# EAGLE library part MSP430G2553IPW20 (library Custom Parts Library)
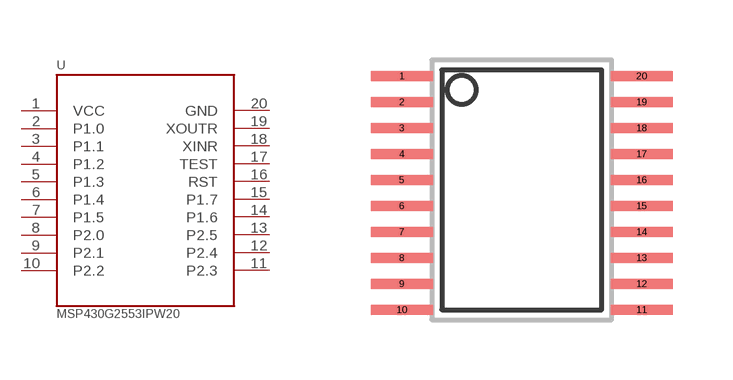
[diagram p0: symbol with the pads of MSP430G2553IPW20; footprint MSP430G2553IPW20]

Designator prefix -

## MSP430G2553IPW20  [MSP430G2553IPW20]
1  VCC  pwr
2  P1.0
3  P1.1
4  P1.2
5  P1.3
6  P1.4
7  P1.5
8  P2.0
9  P2.1
10  P2.2
11  P2.3
12  P2.4
13  P2.5
14  P1.6
15  P1.7
16  RST
17  TEST
18  XINR
19  XOUTR
20  GND  pwr

## Footprint MSP430G2553IPW20 (pad centres in mm)
smd 1.55 x 0.25: 1 -3,2.85; 2 -3,2.2; 3 -3,1.55; 4 -3,0.9; 5 -3,0.25; 6 -3,-0.4; 7 -3,-1.05; 8 -3,-1.7; 9 -3,-2.35; 10 -3,-3; 11 3,-3; 12 3,-2.35; 13 3,-1.7; 14 3,-1.05; 15 3,-0.4; 16 3,0.25; 17 3,0.9; 18 3,1.55; 19 3,2.2; 20 3,2.85